# Altium schematic symbol library LiPo_1S_Protection_Circuit.SchLib: 4 symbols
Pins are listed as number, name and electrical type; pins without a type are passive.

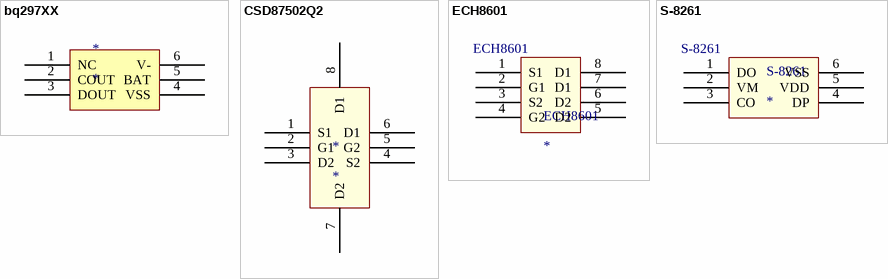
[diagram p0: symbols bq297XX to S-8261]

## bq297XX
designator *
footprint bq297xx
pins: 1 NC, 2 COUT, 3 DOUT, 4 VSS, 5 BAT, 6 V-

## CSD87502Q2
designator *
footprint CSD87502Q2
pins: 1 S1, 2 G1, 3 D2, 4 S2, 5 G2, 6 D1, 7 D2, 8 D1

## ECH8601
designator ECH8601
ECH8601; Supplier 1: Digi-Key; Supplier Part Number 1: ECH8601
footprint ECH8601
pins: 1 S1, 2 G1, 3 S2, 4 G2, 5 D2, 6 D2, 7 D1, 8 D1

## S-8261
designator S-8261
S-8261; Supplier 1: Digi-Key; Supplier Part Number 1: S-8261
footprint S-8261
pins: 1 DO, 2 VM, 3 CO, 4 DP, 5 VDD, 6 VSS